# Altium footprint library optics.PcbLib: 2 footprints
Each footprint in its own frame and in the unit in brackets; x right, y up, seen from the top. Pads: shape width x height; smd on the part's side, far side on the other; paste and mask are expansions set on the pad; w line width, h text height; cw(c..) or ccw(c..) is an arc to the next point about the centre after c.
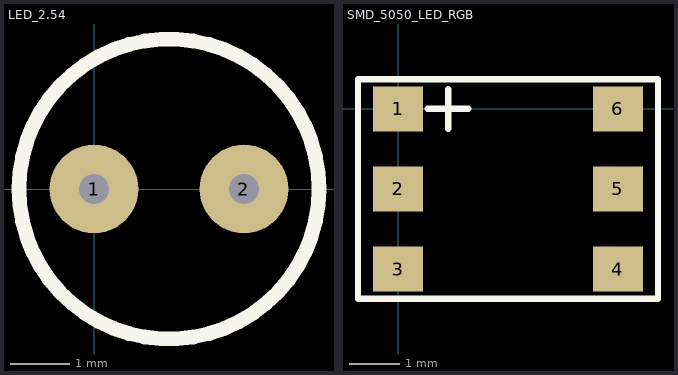
[diagram p0: the footprints below, top view; thin cyan lines are the x and y axes]

## LED_2.54 [mm]
pads (2):
  round 1.5 hole 0.508: 1(0,0) 2(2.54,0)
Top Overlay:
  circle w0.249: c1.27,0 r2.54

## SMD_5050_LED_RGB [mm]
pads (6):
  rect 1x0.9 smd: 1(0,0) 2(0,-1.6) 3(0,-3.2) 4(4.4,-3.2) 5(4.4,-1.6) 6(4.4,0)
Top Overlay:
  lines w0.13: 0.6,0 1.4,0 ; 1,-0.4 1,0.4 ; -0.8,-3.8 5.2,-3.8 5.2,0.6 -0.8,0.6 -0.8,-3.8